# EAGLE library part FEMALE_2X4 (library be_con_jump)
male connector device 2x4 drawn: Mario Blunk / Blunk electronic
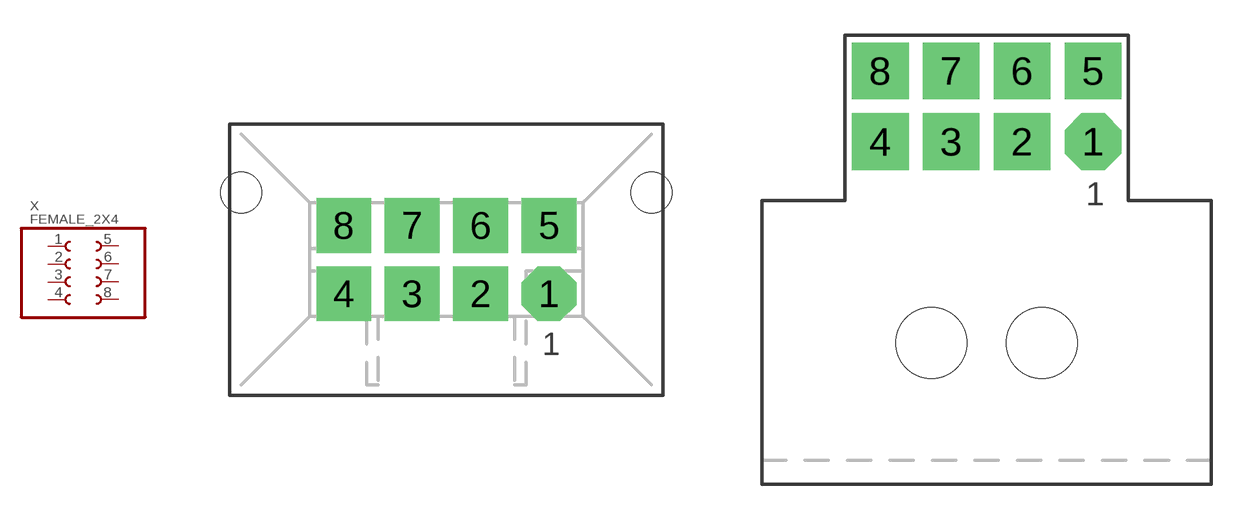
[diagram p6: symbol with the pads of T_FEMALE_2X4_MOLEX_PART_CODE_44432-0801; footprints T_FEMALE_2X4_MOLEX_PART_CODE_44432-0801, T_FEMALE_2X4_MOLEX_PART_CODE_44428-0801]

Designator prefix X

## FEMALE_2X4-T-VERTICAL (BOM: YES; COMMISSIONED: 2013-08-30; PART_CODE_BEL: X_PAC_T_FEMALE_2X4_MOLEX_PART_CODE_44432-0801)  [T_FEMALE_2X4_MOLEX_PART_CODE_44432-0801]
1  1  pas
2  2  pas
3  3  pas
4  4  pas
5  5  pas
6  6  pas
7  7  pas
8  8  pas

## FEMALE_2X4-T-HORIZONTAL (BOM: YES; COMMISSIONED: 2014-03-26; PART_CODE_BEL: X_PAC_T_FEMALE_2X4_MOLEX_PART_CODE_44428-0801)  [T_FEMALE_2X4_MOLEX_PART_CODE_44428-0801]
Pads as for T_FEMALE_2X4_MOLEX_PART_CODE_44432-0801

## Footprint T_FEMALE_2X4_MOLEX_PART_CODE_44432-0801 (pad centres in mm)
edited: Mario Blunk / Blunk electronic date: 2014-02-06
drill 1.2 pad 2.4 octagon: 1 4.5,-1.5
drill 1.2 pad 2.4 square: 2 1.5,-1.5; 3 -1.5,-1.5; 4 -4.5,-1.5; 5 4.5,1.5; 6 1.5,1.5; 7 -1.5,1.5; 8 -4.5,1.5
hole 1.8 at -9,2.95
hole 1.8 at 9,2.95

## Footprint T_FEMALE_2X4_MOLEX_PART_CODE_44428-0801 (pad centres in mm)
drawn: Mario Blunk / Blunk electronic date: 2014-03-26
drill 1.2 pad 2.4 octagon: 1 4.5,-1.5
drill 1.2 pad 2.4 square: 2 1.5,-1.5; 3 -1.5,-1.5; 4 -4.5,-1.5; 5 4.5,1.5; 6 1.5,1.5; 7 -1.5,1.5; 8 -4.5,1.5
hole 3 at -2.34,-10.03
hole 3 at 2.34,-10.03